# Altium integrated library lem.IntLib: 3 symbols
Pins are listed as number, name and electrical type; pins without a type are passive.

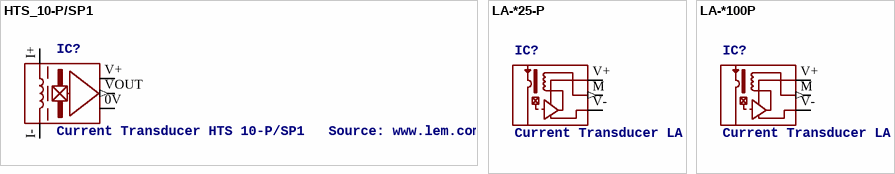
[diagram p0: symbols HTS_10-P/SP1 to LA-*100P]

## HTS_10-P/SP1
designator IC?, comment Current Transducer HTS 10-P/SP1   Source: www.lem.com
OC_FARNELL: unknown; OC_NEWARK: unknown
footprint HTS_10-P/SP1
pins: 0V, I+, I-, V+, VOUT (out)

## LA-*25-P
designator IC?, comment Current Transducer LA 100P   For the electronic measurement of currents: DC, AC, pulsed..., Source:  Data sheet
footprint LA25P
pins: M (out), V+, V-

## LA-*100P
designator IC?, comment Current Transducer LA 100P   For the electronic measurement of currents: DC, AC, pulsed..., Source:  Data sheet
footprint LA100P
pins: M (out), V+, V-